# Altium schematic symbol library Ground.SchLib: 1 symbol
Pins are listed as number, name and electrical type; pins without a type are passive.

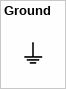
[diagram p0: symbol Ground]

## Ground
designator ?  (value not drawn)
pins: 3